# Altium footprint library 常用小元件封装库.PcbLib: 50 footprints (part 4 of 4)
Each footprint in its own frame and in the unit in brackets; x right, y up, seen from the top. Pads: shape width x height; smd on the part's side, far side on the other; paste and mask are expansions set on the pad; w line width, h text height; cw(c..) or ccw(c..) is an arc to the next point about the centre after c.
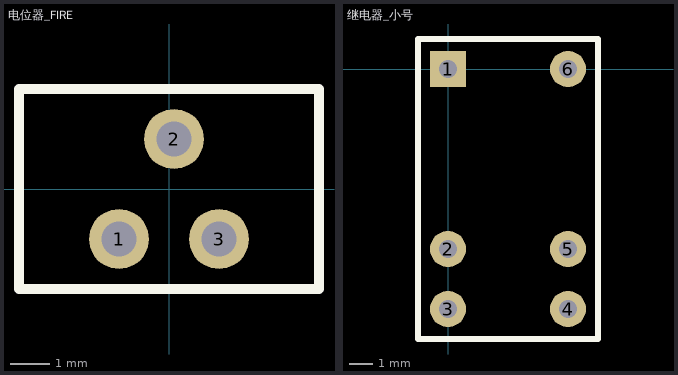
[diagram p3: the footprints below, top view; thin cyan lines are the x and y axes]

## 电位器_FIRE [mil]
pads (3):
  round 60 hole 35.44: 1(-50,-50) 2(5,50) 3(50,-50)
Top Overlay:
  lines w10: -150,-100 150,-100 150,100 -150,100 -150,-100

## 继电器_小号 [mil]
pads (6):
  rect 60x60 hole 30 square: 1(0,0)
  round 60 hole 30: 2(0,-300) 3(0,-400) 4(200,-400) 5(200,-300) 6(200,0)
Top Overlay:
  lines w10: -50,-450 -50,50 250,50 250,-450 -50,-450